# Altium footprint library BQ24295.PcbLib: 2 footprints
Each footprint in its own frame and in the unit in brackets; x right, y up, seen from the top. Pads: shape width x height; smd on the part's side, far side on the other; paste and mask are expansions set on the pad; w line width, h text height; cw(c..) or ccw(c..) is an arc to the next point about the centre after c.
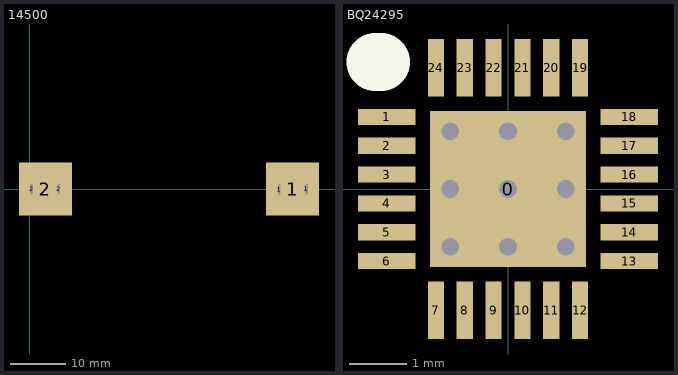
[diagram p0: the footprints below, top view; thin cyan lines are the x and y axes]

## 14500 [mm]
pads (6):
  rect 1.5x2.5 hole 0.4 slot 1.9 at 90 deg: 1(44.8,-0.1) 1(49.7,0) 2(0.3,0) 2(5.2,0)
  rect 9.5x9.5 smd: 1(47.2,0) 2(2.8,0)
3D body: height 13.99, standoff 0.01, extent 0,-7 50,6.945

## BQ24295 [mm]
pads (25):
  rect 2.7x2.7 smd: 0(0,0)
  rect 1x0.28 smd: 1(-2.1,1.25) 2(-2.1,0.75) 3(-2.1,0.25) 4(-2.1,-0.25) 5(-2.1,-0.75) 6(-2.1,-1.25) 13(2.1,-1.25) 14(2.1,-0.75) 15(2.1,-0.25) 16(2.1,0.25) 17(2.1,0.75) 18(2.1,1.25)
  rect 0.28x1 smd: 7(-1.25,-2.1) 8(-0.75,-2.1) 9(-0.25,-2.1) 10(0.25,-2.1) 11(0.75,-2.1) 12(1.25,-2.1) 19(1.25,2.1) 20(0.75,2.1) 21(0.25,2.1) 22(-0.25,2.1) 23(-0.75,2.1) 24(-1.25,2.1)
via 0,0 diameter 0.508 hole 0.305
via 1,0 diameter 0.508 hole 0.305
via 1,1 diameter 0.508 hole 0.305
via 0,1 diameter 0.508 hole 0.305
via -1,1 diameter 0.508 hole 0.305
via -1,0 diameter 0.508 hole 0.305
via -1,-1 diameter 0.508 hole 0.305
via 0,-1 diameter 0.508 hole 0.305
via 1,-1 diameter 0.508 hole 0.305
Top Overlay:
  lines w1: -2.3,2.2 -2.2,2.2
3D body: height 0.9, standoff 0, extent -2,-2 2,2